# Altium schematic symbol library PIN.SCHLIB: 37 symbols
Pins are listed as number, name and electrical type; pins without a type are passive.

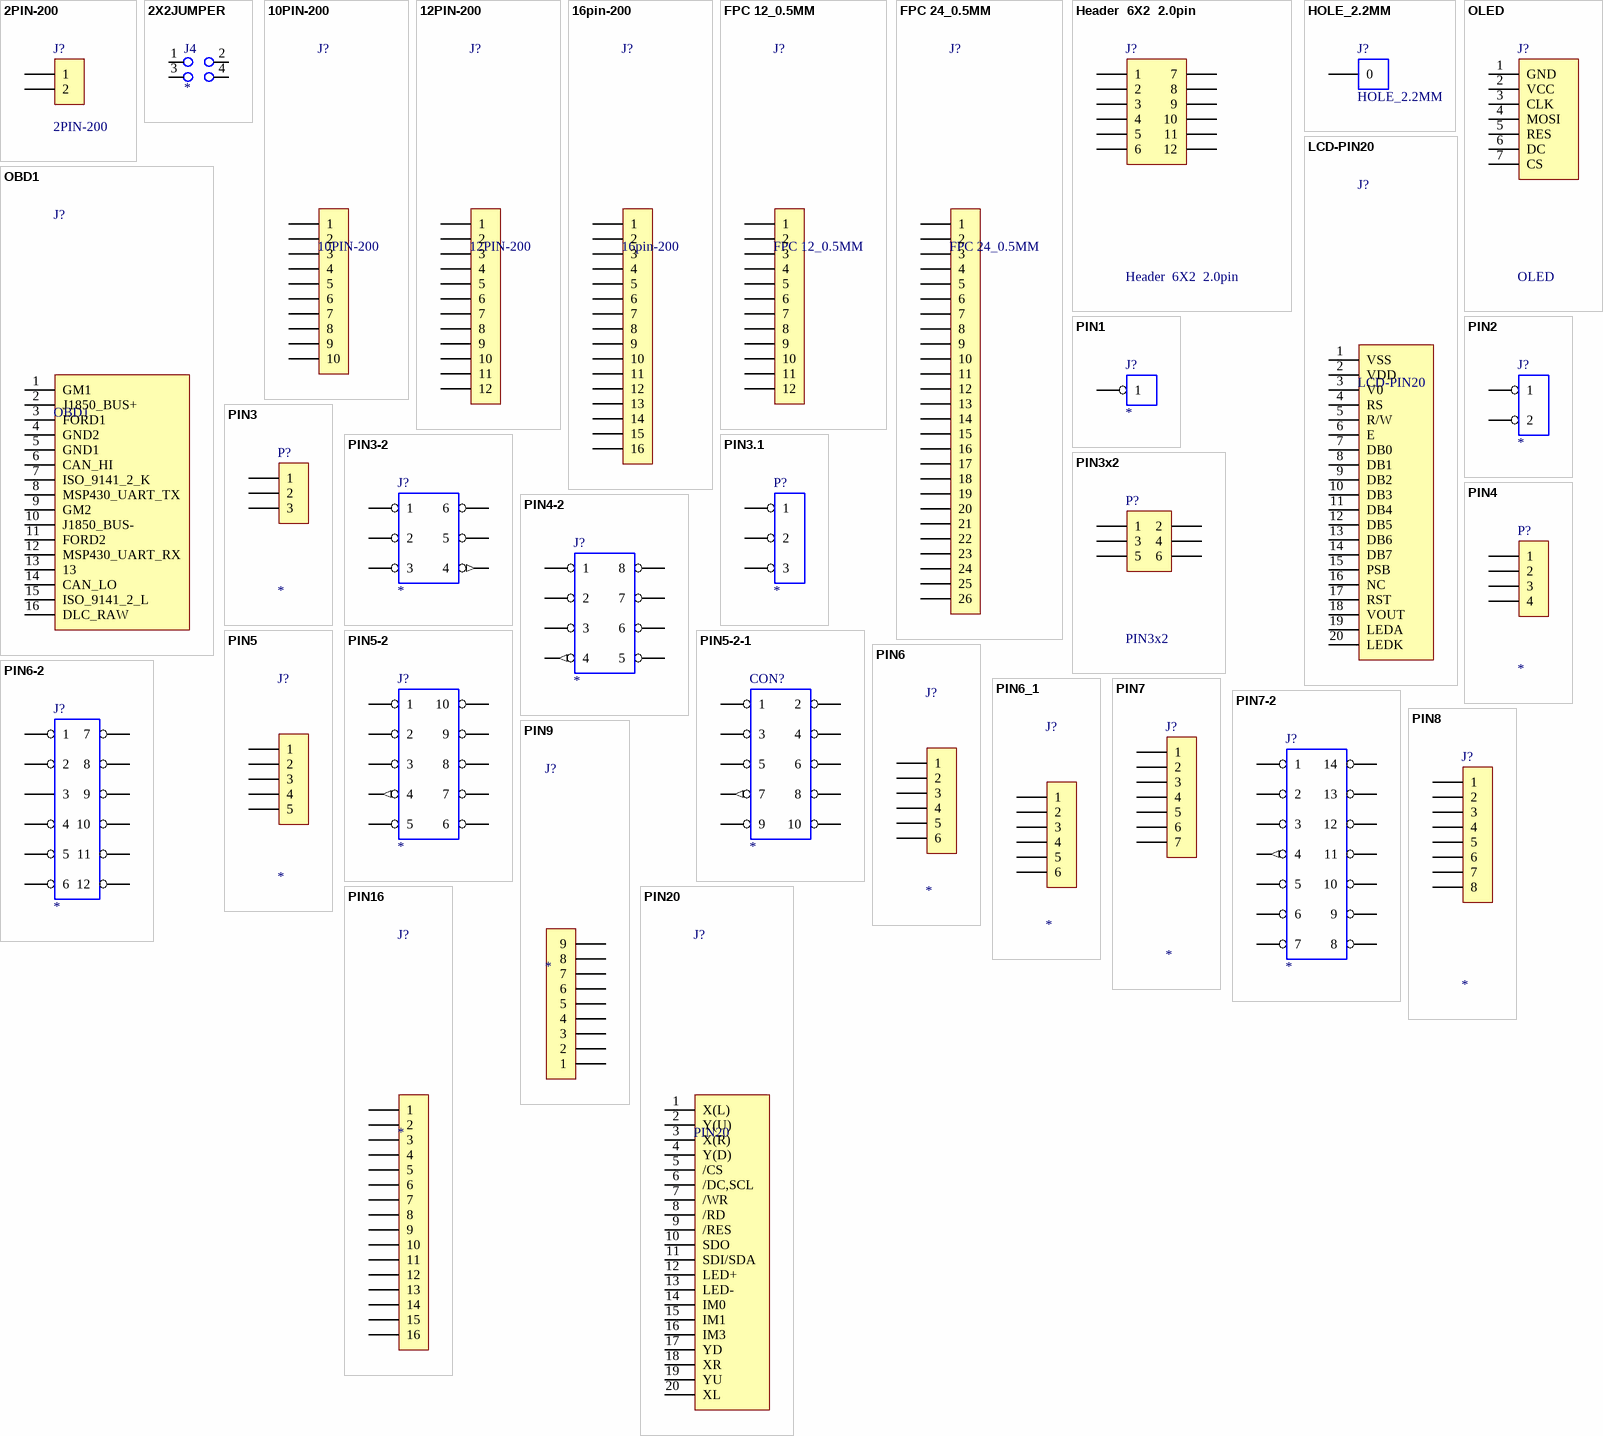
[diagram p0: symbols 2PIN-200 to PIN20]

## 2PIN-200
designator J?
Connector
footprint 2PIN-200
footprint PIN2-1
footprint SMA-POST-90
footprint JUMP
pins: 1, 2

## 2X2JUMPER
designator J4
Right: *; Bottom: *; Part Number: *; Tolerance: *; Rating: *; Old Part Number: *; Package Height: *; Part Status: *; VALUE_ALLEGRO: *; PCB_x: *; PCB_y: *; PCB_dir: *; PCB_loc: *; FPLIST: *
footprint 2X3PIN-200-90
pins: 1, 2, 3, 4
2 alternate drawings of the same symbol

## 10PIN-200
designator J?
footprint 10pin-200
pins: 1, 2, 3, 4, 5, 6, 7, 8, 9, 10

## 12PIN-200
designator J?
footprint 12PIN-200
pins: 1, 2, 3, 4, 5, 6, 7, 8, 9, 10, 11, 12

## 16pin-200
designator J?
footprint 16pin-200
pins: 1, 2, 3, 4, 5, 6, 7, 8, 9, 10, 11, 12, 13, 14, 15, 16

## FPC 12_0.5MM
designator J?
pins: 1, 2, 3, 4, 5, 6, 7, 8, 9, 10, 11, 12

## FPC 24_0.5MM
designator J?
pins: 1, 2, 3, 4, 5, 6, 7, 8, 9, 10, 11, 12, 13, 14, 15, 16, 17, 18, 19, 20, 21, 22, 23, 24, 25, 26

## Header  6X2  2.0pin
designator J?
Connector
footprint 2X7PIN-200
pins: 1, 2, 3, 4, 5, 6, 7, 8, 9, 10, 11, 12

## HOLE_2.2MM
designator J?
Connector
pins: 0

## LCD-PIN20
designator J?
footprint 20pin-254
pins: 1 VSS, 2 VDD, 3 V0, 4 RS, 5 R/W, 6 E, 7 DB0, 8 DB1, 9 DB2, 10 DB3, 11 DB4, 12 DB5, 13 DB6, 14 DB7, 15 PSB, 16 NC, 17 RST, 18 VOUT, 19 LEDA, 20 LEDK

## OBD1
designator J?
footprint 12PIN-200
pins: 1 GM1, 2 J1850_BUS+, 3 FORD1, 4 GND2, 5 GND1, 6 CAN_HI, 7 ISO_9141_2_K, 8 MSP430_UART_TX, 9 GM2, 10 J1850_BUS-, 11 FORD2, 12 MSP430_UART_RX, 13, 14 CAN_LO, 15 ISO_9141_2_L, 16 DLC_RAW

## OLED
designator J?
Connector
footprint PIN7 (Footprint not found)
pins: 1 GND, 2 VCC, 3 CLK, 4 MOSI, 5 RES, 6 DC, 7 CS

## PIN1
designator J?
Connector
footprint PIN1
footprint PIN2
footprint SMA-POST-90
pins: 1

## PIN2
designator J?
Connector
footprint PIN2
footprint PIN2-1
footprint SMA-POST-90
footprint JUMP
pins: 1, 2

## PIN3
designator P?
Connector
footprint 4PIN-200
pins: 1, 2, 3

## PIN3-2
designator J?
Connector
footprint PIN3-2
pins: 1, 2, 3, 4 (out), 5, 6

## PIN3.1
designator P?
Connector
footprint PIN3
pins: 1, 2, 3

## PIN3x2
designator P?
Connector
footprint 2X3PIN-200
pins: 1, 2, 3, 4, 5, 6

## PIN4
designator P?
Connector
footprint 4PIN-200
pins: 1, 2, 3, 4

## PIN4-2
designator J?
Connector
footprint PIN4-2
pins: 1, 2, 3, 4 (out), 5, 6, 7, 8

## PIN5
designator J?
footprint 5pin-200
pins: 1, 2, 3, 4, 5

## PIN5-2
designator J?
Connector
footprint PIN5-2
pins: 1, 2, 3, 4 (out), 5, 6, 7, 8, 9, 10

## PIN5-2-1
designator CON?
Connector
footprint PIN5-2-2MM
pins: 1, 2, 3, 4, 5, 6, 7 (out), 8, 9, 10

## PIN6
designator J?
footprint 6pin-200
pins: 1, 2, 3, 4, 5, 6

## PIN6-2
designator J?
footprint PIN2-6
pins: 1, 2, 3, 4, 5, 6, 7, 8, 9, 10, 11, 12

## PIN6_1
designator J?
footprint 6pin-200
pins: 1, 2, 3, 4, 5, 6

## PIN7
designator J?
Connector
footprint PIN7 (Footprint not found)
pins: 1, 2, 3, 4, 5, 6, 7

## PIN7-2
designator J?
Connector
footprint PIN7-2
pins: 1, 2, 3, 4 (out), 5, 6, 7, 8, 9, 10, 11, 12, 13, 14

## PIN8
designator J?
Connector
footprint PIN7-2
pins: 1, 2, 3, 4, 5, 6, 7, 8

## PIN9
designator J?
footprint 6pin-200
pins: 1, 2, 3, 4, 5, 6, 7, 8, 9

## PIN16
designator J?
footprint 16pin-254
pins: 1, 2, 3, 4, 5, 6, 7, 8, 9, 10, 11, 12, 13, 14, 15, 16

## PIN20
designator J?
footprint 16pin-254
pins: 1 X(L), 2 Y(U), 3 X(R), 4 Y(D), 5 /CS, 6 /DC,SCL, 7 /WR, 8 /RD, 9 /RES, 10 SDO, 11 SDI/SDA, 12 LED+, 13 LED-, 14 IM0, 15 IM1, 16 IM3, 17 YD, 18 XR, 19 YU, 20 XL

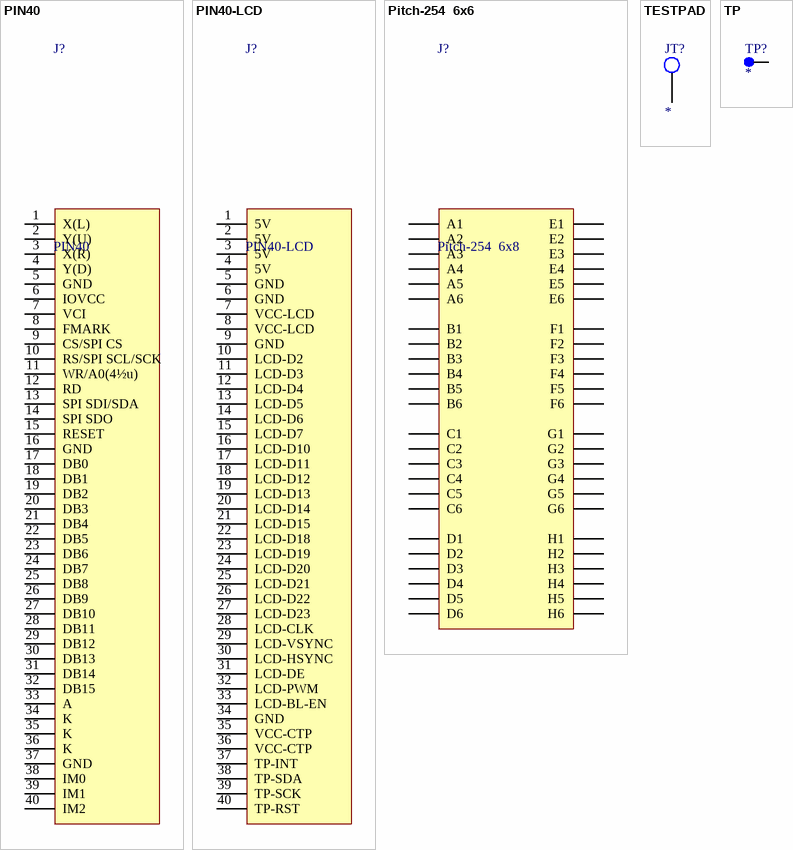
[diagram p1: symbols PIN40 to TP]

## PIN40
designator J?
footprint 16pin-254
pins: 1 X(L), 2 Y(U), 3 X(R), 4 Y(D), 5 GND, 6 IOVCC, 7 VCI, 8 FMARK, 9 CS/SPI CS, 10 RS/SPI SCL/SCK, 11 WR/A0(4½u), 12 RD, 13 SPI SDI/SDA, 14 SPI SDO, 15 RESET, 16 GND, 17 DB0, 18 DB1, 19 DB2, 20 DB3, 21 DB4, 22 DB5, 23 DB6, 24 DB7, 25 DB8, 26 DB9, 27 DB10, 28 DB11, 29 DB12, 30 DB13, 31 DB14, 32 DB15, 33 A, 34 K, 35 K, 36 K, 37 GND, 38 IM0, 39 IM1, 40 IM2

## PIN40-LCD
designator J?
footprint 16pin-254
pins: 1 5V, 2 5V, 3 5V, 4 5V, 5 GND, 6 GND, 7 VCC-LCD, 8 VCC-LCD, 9 GND, 10 LCD-D2, 11 LCD-D3, 12 LCD-D4, 13 LCD-D5, 14 LCD-D6, 15 LCD-D7, 16 LCD-D10, 17 LCD-D11, 18 LCD-D12, 19 LCD-D13, 20 LCD-D14, 21 LCD-D15, 22 LCD-D18, 23 LCD-D19, 24 LCD-D20, 25 LCD-D21, 26 LCD-D22, 27 LCD-D23, 28 LCD-CLK, 29 LCD-VSYNC, 30 LCD-HSYNC, 31 LCD-DE, 32 LCD-PWM, 33 LCD-BL-EN, 34 GND, 35 VCC-CTP, 36 VCC-CTP, 37 TP-INT, 38 TP-SDA, 39 TP-SCK, 40 TP-RST

## Pitch-254  6x6
designator J?, comment Pitch-254  6x8
footprint 6*8PIN-254
pins: A1, A2, A3, A4, A5, A6, B1, B2, B3, B4, B5, B6, C1, C2, C3, C4, C5, C6, D1, D2, D3, D4, D5, D6, E1, E2, E3, E4, E5, E6, F1, F2, F3, F4, F5, F6, G1, G2, G3, G4, G5, G6, H1, H2, H3, H4, H5, H6

## TESTPAD
designator JT?
footprint TESTPAD
pins: 1

## TP
designator TP?
footprint TESTPAD-0.6MM
footprint TESTPAD-0.6MM-1
footprint TESTPAD-0.4MM
footprint TESTPAD-0.4MM-1
pins: 1
2 alternate drawings of the same symbol